# EAGLE library part REC15E-2412SZ (library REC15E-2412SZ)
Isolated Module DC DC Converter 1 Output 12V 1.25A 9V - 36V Input Source: Datasheet <https://g.recomcdn.com/media/Datasheet/pdf/.fX2aue-W/.tb5cc79728e7bdacded41/Datasheet-81/REC15E-Z.pdf>
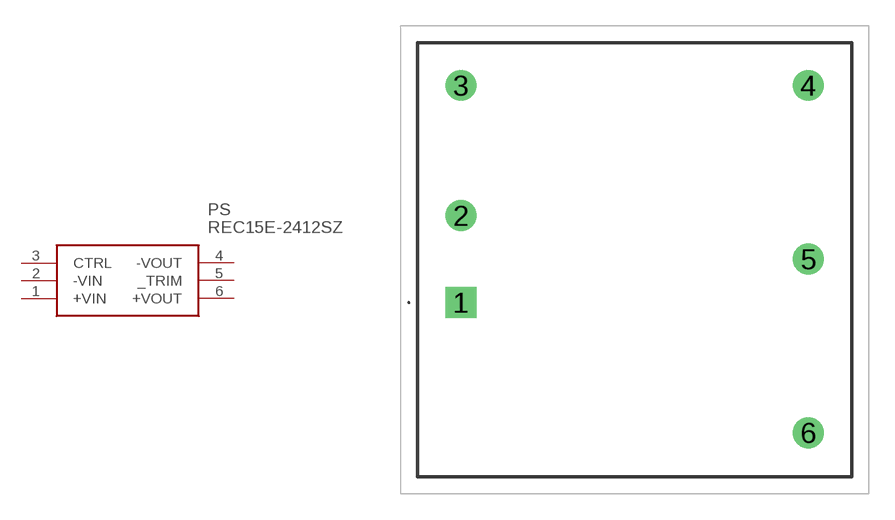
[diagram p0: symbol with the pads of REC15E2412SZ; footprint REC15E2412SZ]

Designator prefix PS

## REC15E-2412SZ (Description: Isolated Module DC DC Converter 1 Output 12V 1.25A 9V - 36V Input; Height: 10.5mm; Manufacturer_Name: RECOM Power; Manufacturer_Part_Number: REC15E-2412SZ; Mouser_Part_Number: 919-REC15E-2412SZ; Mouser_Price-Stock: https://www.mouser.co.uk/ProductDetail/RECOM-Power/REC15E-2412SZ?qs=lc2O%252BfHJPVaB%252BhHbKF22Hg%3D%3D)  [REC15E2412SZ]
1  +VIN
2  -VIN
3  CTRL
4  -VOUT
5  _TRIM
6  +VOUT

## Footprint REC15E2412SZ (pad centres in mm)
REC15E-2412SZ
drill 1.2 pad 1.8 square: 1 0,0
drill 1.2 pad 1.8: 2 0,5.08; 3 0,12.7; 4 20.32,12.7; 5 20.32,2.54; 6 20.32,-7.62